# Altium schematic symbol library SYM-Passive.SchLib: 208 symbols (part 5 of 9)
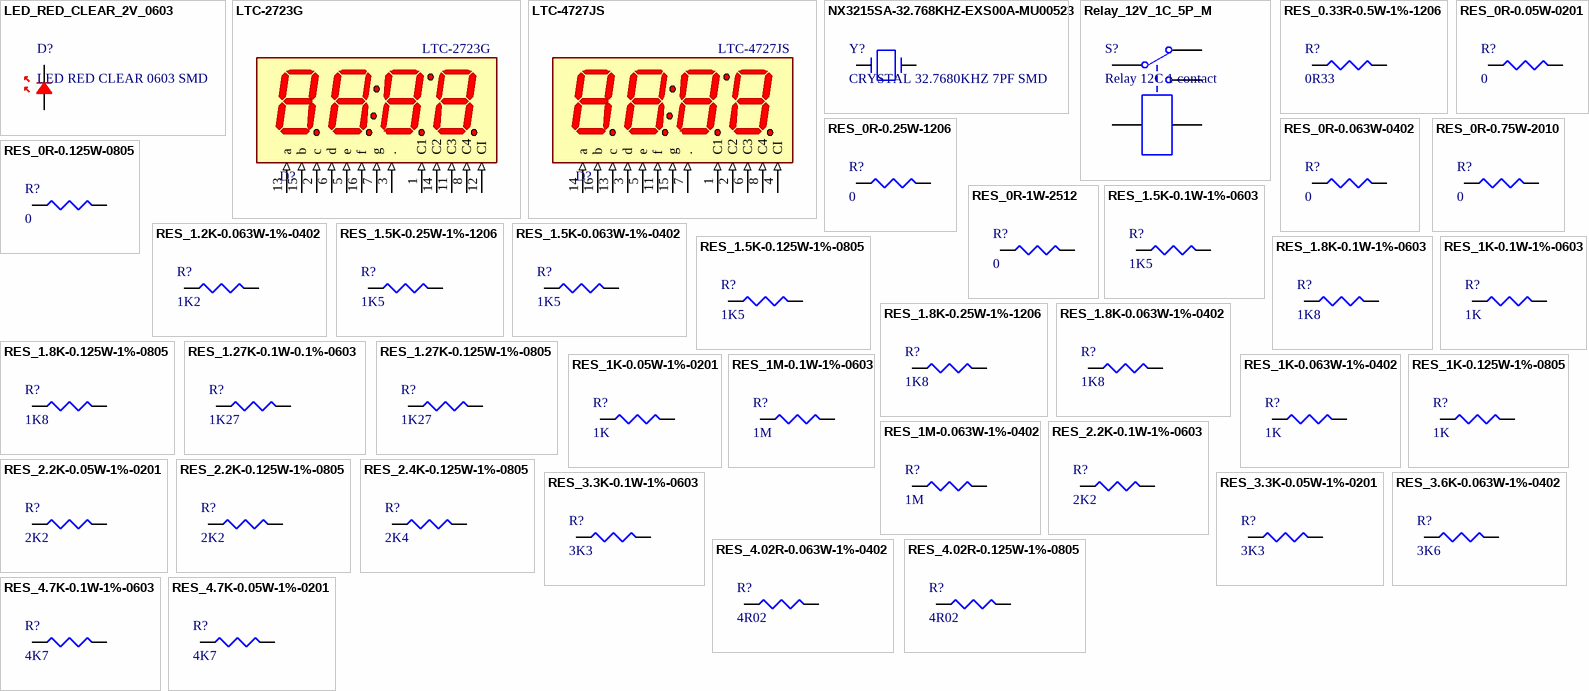
[diagram p9: symbols LED_RED_CLEAR_2V_0603 to RES_4.7K-0.05W-1%-0201]

## RES_2.2K-0.05W-1%-0201
designator R?, comment 2K2
Res Thick Film 0201 2.2K Ohm 1% 1/20W ±200ppm/°C Molded SMD Paper T/R; Manufacturer: Yageo; Manufacturer Part Number: RC0201FR-072K2L; Resistance: 2.2kR; Power Rating: 50mW; Voltage Rating: 25V; Supplier 1: Digi-Key; RoHS: Yes; Category: Chip SMD Resistors; Stock 1: 753875; Pricing 1: 1=0/10000, 10=0/04200, 100=0/01700, 1000=0/00765, 2500=0/00664, 5000=0/00548 (USD); Case/Package: 0201; Case Code (Imperial): 0201; Case Code (Metric): 0603; Size Code: 0201; Min Operating Temperature: -55°C; Max Operating Temperature: 125°C; Tolerance: 1%; Packaging: Tape and Reel; Resistor Type: Thick Film; Number of Terminations: 2; Termination: SMD/SMT; Temperature Coefficient: 200ppm/°C; Max Power Dissipation: 50mW; Features: Moisture Resistant; Series: RC; Resistance Tolerance: 1%; Construction: Rectangular; Length: 0.6mm; Width: 0.012inch; Height: 0.01inch; Depth: 0.3mm; REACH SVHC: Unknown; Military Standard: Not; Lead Free: Lead Free; RoHS Compliant: Yes; ComponentLink1URL: https://datasheet.ciiva.com/7672/1563626-7672218.pdf?src-supplier=Element14; ComponentLink1Description: https://datasheet.ciiva.com/7672/1563626-7672218.pdf?src-supplier=Element14; Supplier Part Number 1: YAG2572CT-ND
footprint RESC0603X03N - 0201 (Chip Resistor, 2-Leads, Body 0/60x0/30mm, IPC Medium Density)
footprint RESC0603X03M - 0201 (Chip Resistor, 2-Leads, Body 0/60x0/30mm, IPC Low Density)
footprint RESC0603X03L - 0201 (Chip Resistor, 2-Leads, Body 0/60x0/30mm, IPC High Density)
pins: 1, 2

## RES_2.2K-0.125W-1%-0805
designator R?, comment 2K2
Res SMD 0805 2K2 1% 0.125W T.C.100PPM; Manufacturer: Yageo; Manufacturer Part Number: RC0805FR-072K2L; Power Rating: 125mW; Resistance: 2.2kR; Temperature Coefficient: 100ppm/°C; Voltage Rating: 150V; Supplier 1: Digi-Key; RoHS: Yes; Category: Chip SMD Resistors; Stock 1: 1244; Pricing 1: 1=0/10000, 10=0/04200, 100=0/01690, 1000=0/00759, 2500=0/00659 (USD); Case/Package: 0805; Number of Pins: 2; Case Code (Imperial): 0805; Case Code (Metric): 2012; Size Code: 0805; Min Operating Temperature: -55°C; Max Operating Temperature: 155°C; Tolerance: 1%; Packaging: Tape and Reel; Voltage Rating (DC): 150V; Package Quantity: 1; Termination: SMD/SMT; Resistor Type: Thick Film; Number of Terminations: 2; Max Power Dissipation: 125mW; Features: Moisture Resistant; Series: RC; Resistance Tolerance: 1%; Construction: Rectangular; Technology: THICK FILM; Length: 2mm; Width: 1.25mm; Height: 0.5mm; Depth: 1.25mm; Lead Pitch: 0.4mm; REACH SVHC: No SVHC; Lead Free: Lead Free; RoHS Compliant: Yes; Military Standard: Not; Supplier Part Number 1: 311-2.20KCRCT-ND
footprint RESC2012X05N - 0805 (Chip Resistor, 2-Leads, Body 2/00x1/25mm, IPC Medium Density)
footprint RESC2012X05M - 0805 (Chip Resistor, 2-Leads, Body 2/00x1/25mm, IPC Low Density)
footprint RESC2012X05L - 0805 (Chip Resistor, 2-Leads, Body 2/00x1/25mm, IPC High Density)
pins: 1, 2

## RES_2.4K-0.125W-1%-0805
designator R?, comment 2K4
Res Thick Film 0805 240K Ohm 1% 0.125W(1/8W) ±100ppm/C Pad SMD T/R; Manufacturer: Yageo; Manufacturer Part Number: RC0805FR-07240KL; Resistance: 240kR; Power Rating: 125mW; Voltage Rating: 150V; Temperature Coefficient: 100ppm/°C; Supplier 1: Digi-Key; RoHS: Yes; Category: Chip SMD Resistors; Stock 1: 112631; Pricing 1: 1=0/10000, 10=0/04200, 100=0/01690, 1000=0/00759, 2500=0/00659 (USD); Mount: Surface Mount; Case/Package: 0805; Case Code (Metric): 2012; Case Code (Imperial): 0805; Size Code: 0805; Min Operating Temperature: -55°C; Max Operating Temperature: 155°C; Tolerance: 1%; Packaging: Tape and Reel; Resistor Type: Thick Film; Number of Terminations: 2; Termination: SMD/SMT; Max Power Dissipation: 125mW; Voltage Rating (DC): 150V; Features: Moisture Resistant; Series: RC; Technology: THICK FILM; Construction: Rectangular; Package Quantity: 1; Length: 0.079inch; Width: 0.049inch; Height: 0.024inch; Depth: 1.25mm; Military Standard: Not; Lead Free: Lead Free; RoHS Compliant: Yes; ComponentLink1URL: https://datasheet.ciiva.com/11809/0900766b8106beab-11809386.pdf?src-supplier=RSComponents; ComponentLink1Description: https://datasheet.ciiva.com/11809/0900766b8106beab-11809386.pdf?src-supplier=RSComponents; ComponentLink2URL: https://datasheet.ciiva.com/2519/pyu-r-int-thick-7-2519906.pdf?src-supplier=Digi-Key; ComponentLink2Description: https://datasheet.ciiva.com/2519/pyu-r-int-thick-7-2519906.pdf?src-supplier=Digi-Key; ComponentLink3URL: https://datasheet.ciiva.com/2519/pyu-r-int-thick-7-2519907.pdf?src-supplier=Digi-Key; ComponentLink3Description: https://datasheet.ciiva.com/2519/pyu-r-int-thick-7-2519907.pdf?src-supplier=Digi-Key; ComponentLink4URL: https://datasheet.ciiva.com/2519/pyu-r-int-thick-7-2519908.pdf?src-supplier=Digi-Key; ComponentLink4Description: https://datasheet.ciiva.com/2519/pyu-r-int-thick-7-2519908.pdf?src-supplier=Digi-Key; ComponentLink5URL: https://datasheet.ciiva.com/12667/rc0805-12667389.pdf?src-supplier=Mouser; ComponentLink5Description: https://datasheet.ciiva.com/12667/rc0805-12667389.pdf?src-supplier=Mouser; ComponentLink6URL: https://datasheet.ciiva.com/15189/getdatasheetpartid-329211-15189933.pdf?src-supplier=Verical; ComponentLink6Description: https://datasheet.ciiva.com/15189/getdatasheetpartid-329211-15189933.pdf?src-supplier=Verical; Supplier Part Number 1: 311-240KCRCT-ND
footprint RESC2012X05N - 0805 (Chip Resistor, 2-Leads, Body 2/00x1/25mm, IPC Medium Density)
footprint RESC2012X05M - 0805 (Chip Resistor, 2-Leads, Body 2/00x1/25mm, IPC Low Density)
footprint RESC2012X05L - 0805 (Chip Resistor, 2-Leads, Body 2/00x1/25mm, IPC High Density)
pins: 1, 2

## RES_3.3K-0.1W-1%-0603
designator R?, comment 3K3
Res General Purpose Thick Film 0603 3.3K Ohm 1% 1/10W ±100ppm/°C Molded SMD Paper T/R; Manufacturer: Yageo; Manufacturer Part Number: RC0603FR-073K3L; Resistance: 3.3kR; Power Rating: 100mW; Voltage Rating (DC): 50V; Supplier 1: Digi-Key; RoHS: Yes; Category: Chip SMD Resistors; Stock 1: 2880512; Pricing 1: 1=0/10000, 10=0/02300, 100=0/00930, 1000=0/00417, 2500=0/00362 (USD); Case/Package: 0603; Number of Pins: 2; Case Code (Imperial): 0603; Case Code (Metric): 1608; Size Code: 0603; Min Operating Temperature: -55°C; Max Operating Temperature: 155°C; Tolerance: 1%; Packaging: Tape and Reel; Temperature Coefficient: 100ppm/°C; Number of Terminations: 2; Voltage Rating: 50V; Package Quantity: 1; Termination: SMD/SMT; Resistor Type: Thick Film; Max Power Dissipation: 100mW; Features: Moisture Resistant; Series: RC; Resistance Tolerance: 1%; Construction: Rectangular; Length: 1.6mm; Width: 0.8mm; Height: 0.022inch; Depth: 0.8mm; REACH SVHC: No SVHC; Lead Free: Lead Free; Military Standard: Not; RoHS Compliant: Yes; ComponentLink1URL: https://datasheet.ciiva.com/7746/1686128-7746345.pdf?src-supplier=Element14; ComponentLink1Description: https://datasheet.ciiva.com/7746/1686128-7746345.pdf?src-supplier=Element14; ComponentLink2URL: https://datasheet.ciiva.com/46440/1868787-46440905.pdf?src-supplier=Element14; ComponentLink2Description: https://datasheet.ciiva.com/46440/1868787-46440905.pdf?src-supplier=Element14; ComponentLink3URL: https://datasheet.ciiva.com/2453/pyu-r-int-thick-7-2453926.pdf?src-supplier=Digi-Key; ComponentLink3Description: https://datasheet.ciiva.com/2453/pyu-r-int-thick-7-2453926.pdf?src-supplier=Digi-Key; ComponentLink4URL: https://datasheet.ciiva.com/2453/pyu-r-int-thick-7-2453927.pdf?src-supplier=Digi-Key; ComponentLink4Description: https://datasheet.ciiva.com/2453/pyu-r-int-thick-7-2453927.pdf?src-supplier=Digi-Key; Supplier Part Number 1: 311-3.30KHRCT-ND
footprint RESC1608X04N - 0603 (Chip Resistor, 2-Leads, Body 1/60x0/80mm, IPC Medium Density)
footprint RESC1608X04M - 0603 (Chip Resistor, 2-Leads, Body 1/60x0/80mm, IPC Low Density)
footprint RESC1608X04L - 0603 (Chip Resistor, 2-Leads, Body 1/60x0/80mm, IPC High Density)
pins: 1, 2

## RES_3.3K-0.05W-1%-0201
designator R?, comment 3K3
Thick Film Resistors - SMD 3.3K OHM 1%; Manufacturer: Yageo; Manufacturer Part Number: RC0201FR-073K3L; Resistance: 3.3kR; Power Rating: 50mW; Voltage Rating: 25V; Temperature Coefficient: 200ppm/°C; Supplier 1: Digi-Key; RoHS: Yes; Category: Chip SMD Resistors; Stock 1: 1365; Pricing 1: 1=0/10000, 10=0/04200, 100=0/01700, 1000=0/00765, 2500=0/00664, 5000=0/00548 (USD); Case/Package: 0201; Case Code (Metric): 0603; Case Code (Imperial): 0201; Min Operating Temperature: -55°C; Max Operating Temperature: 125°C; Tolerance: 1%; Packaging: Tape and Reel; Package Quantity: 10000; Resistor Type: Thick Film; Number of Terminations: 2; Termination: SMD/SMT; Max Power Dissipation: 50mW; Features: Moisture Resistant; Series: RC; Construction: Rectangular; Resistance Tolerance: 1%; Length: 0.6mm; Width: 0.012inch; Height: 0.01inch; Depth: 0.3mm; REACH SVHC: Unknown; Military Standard: Not; RoHS Compliant: Yes; ComponentLink1URL: https://datasheet.ciiva.com/14985/pyu-r-int-thick-7-14985418.pdf?src-supplier=Digi-Key; ComponentLink1Description: https://datasheet.ciiva.com/14985/pyu-r-int-thick-7-14985418.pdf?src-supplier=Digi-Key; ComponentLink2URL: https://datasheet.ciiva.com/22698/1563626-22698524.pdf?src-supplier=Element14; ComponentLink2Description: https://datasheet.ciiva.com/22698/1563626-22698524.pdf?src-supplier=Element14; Supplier Part Number 1: YAG2285CT-ND
footprint RESC0603X03N - 0201 (Chip Resistor, 2-Leads, Body 0/60x0/30mm, IPC Medium Density)
footprint RESC0603X03M - 0201 (Chip Resistor, 2-Leads, Body 0/60x0/30mm, IPC Low Density)
footprint RESC0603X03L - 0201 (Chip Resistor, 2-Leads, Body 0/60x0/30mm, IPC High Density)
pins: 1, 2

## RES_3.6K-0.063W-1%-0402
designator R?, comment 3K6
Res Thick Film 0402 3.6K Ohm 1% 0.063W(1/16W) ±100ppm/°C Molded SMD Paper T/R; Manufacturer: Yageo; Manufacturer Part Number: RC0402FR-073K6L; Resistance: 3.6kR; Power Rating: 62.5mW; Voltage Rating: 50V; Max Power Dissipation: 63mW; Supplier 1: Digi-Key; RoHS: Yes; Category: Chip SMD Resistors; Stock 1: 1067086; Pricing 1: 1=0/10000, 10=0/01400, 100=0/00580, 1000=0/00262, 2500=0/00228, 5000=0/00188 (USD); Case/Package: 0402; Number of Pins: 2; Case Code (Imperial): 0402; Case Code (Metric): 1005; Weight: 2.3E-05oz; Size Code: 0402; Min Operating Temperature: -55°C; Max Operating Temperature: 155°C; Package Quantity: 1; Tolerance: 1%; Packaging: Tape and Reel; Resistor Type: Thick Film; Termination: SMD/SMT; Number of Terminations: 2; Temperature Coefficient: 100ppm/°C; Voltage Rating (DC): 50V; Features: Moisture Resistant; Series: RC; Construction: Rectangular; Resistance Tolerance: 1%; Length: 1mm; Width: 0.5mm; Height: 0.016inch; Depth: 0.5mm; Reach SVHC Compliant: Yes; Military Standard: Not; Lead Free: Lead Free; RoHS Compliant: Yes; ComponentLink1URL: https://datasheet.ciiva.com/2553/pyu-r-int-thick-7-2553270.pdf?src-supplier=Digi-Key; ComponentLink1Description: https://datasheet.ciiva.com/2553/pyu-r-int-thick-7-2553270.pdf?src-supplier=Digi-Key; ComponentLink2URL: https://datasheet.ciiva.com/2553/pyu-r-int-thick-7-2553271.pdf?src-supplier=Digi-Key; ComponentLink2Description: https://datasheet.ciiva.com/2553/pyu-r-int-thick-7-2553271.pdf?src-supplier=Digi-Key; ComponentLink3URL: https://datasheet.ciiva.com/2553/pyu-r-int-thick-7-2553269.pdf?src-supplier=Digi-Key; ComponentLink3Description: https://datasheet.ciiva.com/2553/pyu-r-int-thick-7-2553269.pdf?src-supplier=Digi-Key; ComponentLink4URL: https://datasheet.ciiva.com/15189/getdatasheetpartid-326454-15189451.pdf?src-supplier=Verical; ComponentLink4Description: https://datasheet.ciiva.com/15189/getdatasheetpartid-326454-15189451.pdf?src-supplier=Verical; Supplier Part Number 1: 311-3.6KLRCT-ND
footprint RESC1005X04N - 0402 (Chip Resistor, 2-Leads, Body 1/00x0/50mm, IPC Medium Density)
footprint RESC1005X04M - 0402 (Chip Resistor, 2-Leads, Body 1/00x0/50mm, IPC Low Density)
footprint RESC1005X04L - 0402 (Chip Resistor, 2-Leads, Body 1/00x0/50mm, IPC High Density)
pins: 1, 2

## RES_4.02R-0.063W-1%-0402
designator R?, comment 4R02
Res Thick Film 0402 4.02 Ohm 1% 1/16W ±200ppm/°C Molded SMD Paper T/R; Manufacturer: Yageo; Manufacturer Part Number: RC0402FR-074R02L; Power Rating: 62.5mW; Resistance: 4.02R; Voltage Rating: 50V; Max Power Dissipation: 63mW; Supplier 1: Digi-Key; RoHS: Yes; Category: Chip SMD Resistors; Stock 1: 2146; Pricing 1: 1=0/10000, 10=0/02500, 100=0/01000, 1000=0/00451, 2500=0/00392, 5000=0/00323 (USD); Case/Package: 0402; Case Code (Imperial): 0402; Case Code (Metric): 1005; Contact Plating: Tin,Matte; Size Code: 0402; Min Operating Temperature: -55°C; Max Operating Temperature: 155°C; Packaging: Tape and Reel; Tolerance: 1%; Resistor Type: Thick Film; Termination: SMD/SMT; Number of Terminations: 2; Temperature Coefficient: 200ppm/°C; Features: Moisture Resistant; Series: RC; Length: 0.039inch; Width: 0.5mm; Height: 0.016inch; Lead Free: Lead Free; RoHS Compliant: Yes; ComponentLink1URL: https://datasheet.ciiva.com/28411/pyu-rc0402-51-rohs-l-6-28411002.pdf?src-supplier=Avnet+Europe; ComponentLink1Description: https://datasheet.ciiva.com/28411/pyu-rc0402-51-rohs-l-6-28411002.pdf?src-supplier=Avnet+Europe; ComponentLink2URL: https://datasheet.ciiva.com/8893/pyu-rc0402-51-rohs-l-6-8893247.pdf?src-supplier=Avnet; ComponentLink2Description: https://datasheet.ciiva.com/8893/pyu-rc0402-51-rohs-l-6-8893247.pdf?src-supplier=Avnet; Supplier Part Number 1: 13-RC0402FR-074R02LCT-ND
footprint RESC1005X04N - 0402 (Chip Resistor, 2-Leads, Body 1/00x0/50mm, IPC Medium Density)
footprint RESC1005X04M - 0402 (Chip Resistor, 2-Leads, Body 1/00x0/50mm, IPC Low Density)
footprint RESC1005X04L - 0402 (Chip Resistor, 2-Leads, Body 1/00x0/50mm, IPC High Density)
pins: 1, 2

## RES_4.02R-0.125W-1%-0805
designator R?, comment 4R02
RES SMD 4.02 OHM 1% 1/8W 0805; Manufacturer: Yageo; Manufacturer Part Number: RC0805FR-074R02L; Resistance: 4.02R; Power Rating: 125mW; Temperature Coefficient: 200ppm/°C; Voltage Rating (DC): 150V; Supplier 1: Digi-Key; RoHS: Yes; Category: Chip SMD Resistors; Stock 1: 65425; Pricing 1: 1=0/10000, 10=0/08300, 100=0/03390, 1000=0/01521, 2500=0/01320 (USD); Case/Package: 0805; Case Code (Metric): 2012; Case Code (Imperial): 0805; Contact Plating: Tin,Lead,Matte; Size Code: 0805; Min Operating Temperature: -55°C; Max Operating Temperature: 155°C; Package Quantity: 1; Tolerance: 1%; Packaging: Tape and Reel; Resistor Type: Thick Film; Number of Terminations: 2; Max Power Dissipation: 125mW; Features: Moisture Resistant; Series: RC; Construction: Rectangular; Length: 0.079inch; Width: 0.049inch; Height: 0.024inch; Depth: 1.25mm; Radiation Hardening: No; Military Standard: Not; Lead Free: Lead Free; RoHS Compliant: Yes; ComponentLink1URL: https://datasheet.ciiva.com/2459/pyu-r-int-thick-7-2459742.pdf?src-supplier=Digi-Key; ComponentLink1Description: https://datasheet.ciiva.com/2459/pyu-r-int-thick-7-2459742.pdf?src-supplier=Digi-Key; ComponentLink2URL: https://datasheet.ciiva.com/2459/pyu-r-int-thick-7-2459743.pdf?src-supplier=Digi-Key; ComponentLink2Description: https://datasheet.ciiva.com/2459/pyu-r-int-thick-7-2459743.pdf?src-supplier=Digi-Key; ComponentLink3URL: https://datasheet.ciiva.com/2459/pyu-r-int-thick-7-2459744.pdf?src-supplier=Digi-Key; ComponentLink3Description: https://datasheet.ciiva.com/2459/pyu-r-int-thick-7-2459744.pdf?src-supplier=Digi-Key; Supplier Part Number 1: 311-4.02CRCT-ND
footprint RESC2012X05N - 0805 (Chip Resistor, 2-Leads, Body 2/00x1/25mm, IPC Medium Density)
footprint RESC2012X05M - 0805 (Chip Resistor, 2-Leads, Body 2/00x1/25mm, IPC Low Density)
footprint RESC2012X05L - 0805 (Chip Resistor, 2-Leads, Body 2/00x1/25mm, IPC High Density)
pins: 1, 2

## RES_4.7K-0.1W-1%-0603
designator R?, comment 4K7
Res Thick Film 0603 4.7K Ohm 1% 1/10W ±100ppm/°C Molded SMD Paper T/R; Manufacturer: Yageo; Manufacturer Part Number: RC0603FR-074K7L; Resistance: 4.7kR; Voltage Rating (DC): 50V; Power Rating: 100mW; Supplier 1: Digi-Key; RoHS: Yes; Category: Chip SMD Resistors; Stock 1: 17391336; Pricing 1: 1=0/10000, 10=0/02300, 100=0/00930, 1000=0/00417, 2500=0/00362 (USD); Case/Package: 0603; Number of Pins: 2; Case Code (Imperial): 0603; Case Code (Metric): 1608; Size Code: 0603; Min Operating Temperature: -55°C; Max Operating Temperature: 155°C; Packaging: Tape and Reel; Tolerance: 1%; Temperature Coefficient: 100ppm/°C; Resistor Type: Thick Film; Voltage Rating: 50V; Termination: SMD/SMT; Features: Moisture Resistant; Series: RC; Max Power Dissipation: 100mW; Number of Terminations: 2; Construction: Rectangular; Resistance Tolerance: 1%; Length: 1.6mm; Width: 0.8mm; Height: 0.45mm; Depth: 0.8mm; Lead Pitch: 0.3mm; REACH SVHC: No SVHC; Lead Free: Lead Free; Military Standard: Not; RoHS Compliant: Yes; ComponentLink1URL: https://datasheet.ciiva.com/15189/getdatasheetpartid-422754-15189760.pdf?src-supplier=Verical; ComponentLink1Description: https://datasheet.ciiva.com/15189/getdatasheetpartid-422754-15189760.pdf?src-supplier=Verical; ComponentLink2URL: https://datasheet.ciiva.com/7660/38590-7660794.pdf?src-supplier=Element14; ComponentLink2Description: https://datasheet.ciiva.com/7660/38590-7660794.pdf?src-supplier=Element14; ComponentLink3URL: https://datasheet.ciiva.com/22747/443971-22747528.pdf?src-supplier=Element14; ComponentLink3Description: https://datasheet.ciiva.com/22747/443971-22747528.pdf?src-supplier=Element14; ComponentLink4URL: https://datasheet.ciiva.com/46440/1868787-46440909.pdf?src-supplier=Element14; ComponentLink4Description: https://datasheet.ciiva.com/46440/1868787-46440909.pdf?src-supplier=Element14; ComponentLink5URL: https://datasheet.ciiva.com/7746/1868787-7746365.pdf?src-supplier=Element14; ComponentLink5Description: https://datasheet.ciiva.com/7746/1868787-7746365.pdf?src-supplier=Element14; ComponentLink6URL: https://datasheet.ciiva.com/7746/1738695-7746366.pdf?src-supplier=Element14; ComponentLink6Description: https://datasheet.ciiva.com/7746/1738695-7746366.pdf?src-supplier=Element14; Supplier Part Number 1: 311-4.70KHRCT-ND
footprint RESC1608X04N - 0603 (Chip Resistor, 2-Leads, Body 1/60x0/80mm, IPC Medium Density)
footprint RESC1608X04M - 0603 (Chip Resistor, 2-Leads, Body 1/60x0/80mm, IPC Low Density)
footprint RESC1608X04L - 0603 (Chip Resistor, 2-Leads, Body 1/60x0/80mm, IPC High Density)
pins: 1, 2

## RES_4.7K-0.05W-1%-0201
designator R?, comment 4K7
Res Thick Film 0201 4.7K Ohm 1% 1/20W ±200ppm/°C Molded SMD SMD Paper T/R; Manufacturer: Yageo; Manufacturer Part Number: RC0201FR-074K7L; Resistance: 4.7kR; Power Rating: 50mW; Voltage Rating: 25V; Supplier 1: Digi-Key; RoHS: Yes; Category: Chip SMD Resistors; Stock 1: 1843697; Pricing 1: 1=0/10000, 10=0/04200, 100=0/01700, 1000=0/00765, 2500=0/00664, 5000=0/00548 (USD); Case/Package: 0201; Case Code (Metric): 0603; Case Code (Imperial): 0201; Weight: 6E-06oz; Contact Plating: Tin,Matte; Size Code: 0201; Min Operating Temperature: -55°C; Max Operating Temperature: 125°C; Tolerance: 1%; Packaging: Tape and Reel; Package Quantity: 1; Resistor Type: Thick Film; Number of Terminations: 2; Termination: SMD/SMT; Temperature Coefficient: 200ppm/°C; Max Power Dissipation: 50mW; Features: Moisture Resistant; Series: RC; Resistance Tolerance: 1%; Construction: Rectangular; Length: 0.6mm; Width: 0.012inch; Height: 0.01inch; Depth: 0.3mm; Radiation Hardening: No; REACH SVHC: Unknown; Military Standard: Not; Lead Free: Lead Free; RoHS Compliant: Yes; ComponentLink1URL: https://datasheet.ciiva.com/8892/pyu-rc0201-51-rohs-l-8-8892942.pdf?src-supplier=Avnet; ComponentLink1Description: https://datasheet.ciiva.com/8892/pyu-rc0201-51-rohs-l-8-8892942.pdf?src-supplier=Avnet; ComponentLink2URL: https://datasheet.ciiva.com/2493/pyu-r-int-thick-7-2493811.pdf?src-supplier=Digi-Key; ComponentLink2Description: https://datasheet.ciiva.com/2493/pyu-r-int-thick-7-2493811.pdf?src-supplier=Digi-Key; ComponentLink3URL: https://datasheet.ciiva.com/2493/pyu-r-int-thick-7-2493812.pdf?src-supplier=Digi-Key; ComponentLink3Description: https://datasheet.ciiva.com/2493/pyu-r-int-thick-7-2493812.pdf?src-supplier=Digi-Key; ComponentLink4URL: https://datasheet.ciiva.com/2493/pyu-r-int-thick-7-2493813.pdf?src-supplier=Digi-Key; ComponentLink4Description: https://datasheet.ciiva.com/2493/pyu-r-int-thick-7-2493813.pdf?src-supplier=Digi-Key; ComponentLink5URL: https://datasheet.ciiva.com/28410/pyu-rc0201-51-rohs-l-8-28410061.pdf?src-supplier=Avnet+Europe; ComponentLink5Description: https://datasheet.ciiva.com/28410/pyu-rc0201-51-rohs-l-8-28410061.pdf?src-supplier=Avnet+Europe; ComponentLink6URL: https://datasheet.ciiva.com/7672/1563626-7672233.pdf?src-supplier=Element14; ComponentLink6Description: https://datasheet.ciiva.com/7672/1563626-7672233.pdf?src-supplier=Element14; Supplier Part Number 1: 311-4.70KMCT-ND
footprint RESC0603X03N - 0201 (Chip Resistor, 2-Leads, Body 0/60x0/30mm, IPC Medium Density)
footprint RESC0603X03M - 0201 (Chip Resistor, 2-Leads, Body 0/60x0/30mm, IPC Low Density)
footprint RESC0603X03L - 0201 (Chip Resistor, 2-Leads, Body 0/60x0/30mm, IPC High Density)
pins: 1, 2

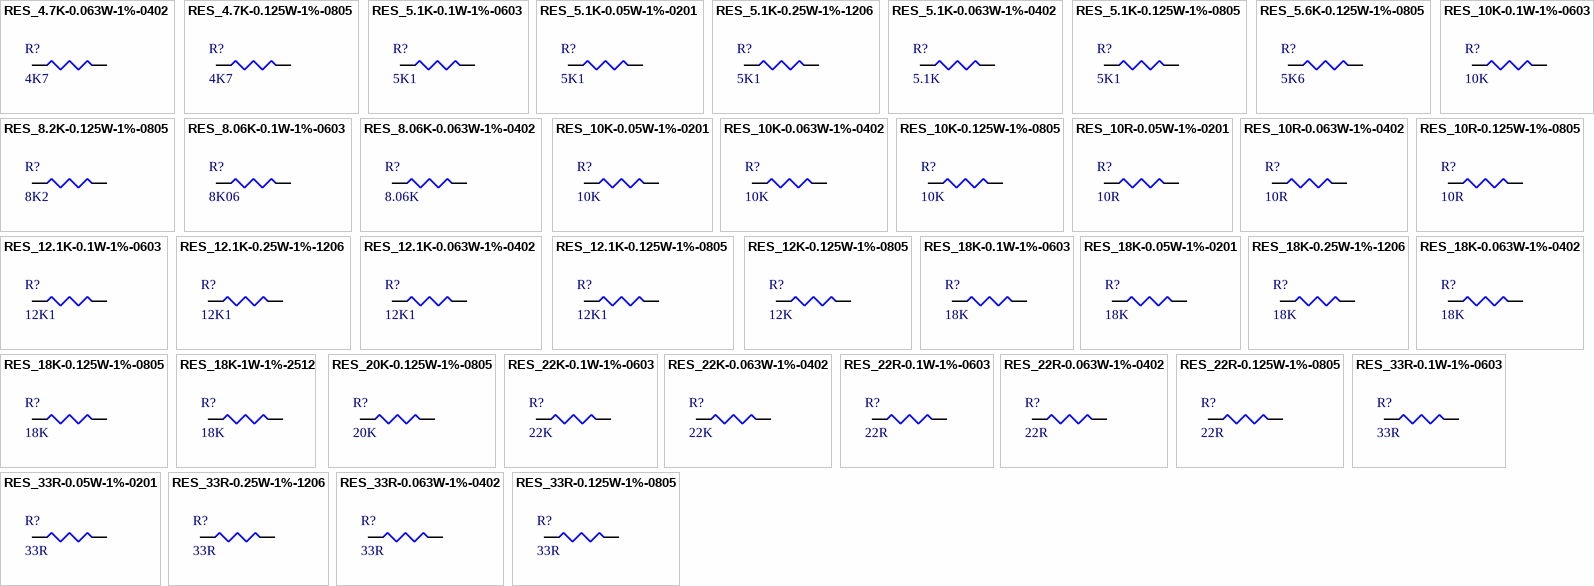
[diagram p3: symbols RES_4.7K-0.063W-1%-0402 to RES_33R-0.125W-1%-0805]

## RES_4.7K-0.063W-1%-0402
designator R?, comment 4K7
Res General Purpose Thick Film 0402 4.7K Ohm 1% 1/16W ±100ppm/°C Molded SMD Paper T/R; Manufacturer: Yageo; Manufacturer Part Number: RC0402FR-074K7L; Voltage Rating (DC): 50V; Power Rating: 62.5mW; Resistance: 4.7kR; Max Power Dissipation: 63mW; Supplier 1: Digi-Key; RoHS: Yes; Category: Chip SMD Resistors; Stock 1: 2007937; Pricing 1: 1=0/10000, 10=0/01600, 100=0/00660, 1000=0/00299, 2500=0/00259, 5000=0/00214 (USD); Case/Package: 0402; Number of Pins: 2; Case Code (Imperial): 0402; Case Code (Metric): 1005; Size Code: 0402; Min Operating Temperature: -55°C; Max Operating Temperature: 155°C; Tolerance: 1%; Voltage Rating: 50V; Packaging: Tape and Reel; Resistor Type: Thick Film; Termination: SMD/SMT; Temperature Coefficient: 100ppm/°C; Features: Moisture Resistant; Series: RC; Number of Terminations: 2; Resistance Tolerance: 1%; Construction: Rectangular; Length: 0.039inch; Width: 0.02inch; Height: 0.32mm; Depth: 0.5mm; Height - Seated (Max): 0.016inch; REACH SVHC: No SVHC; Military Standard: Not; Lead Free: Lead Free; RoHS Compliant: Yes; ComponentLink1URL: https://datasheet.ciiva.com/7850/1018594-7850022.pdf?src-supplier=Element14; ComponentLink1Description: https://datasheet.ciiva.com/7850/1018594-7850022.pdf?src-supplier=Element14; ComponentLink2URL: https://datasheet.ciiva.com/7850/1018594-7850023.pdf?src-supplier=Element14; ComponentLink2Description: https://datasheet.ciiva.com/7850/1018594-7850023.pdf?src-supplier=Element14; ComponentLink3URL: https://datasheet.ciiva.com/15215/getdatasheetpartid-328119-15215035.pdf?src-supplier=Verical; ComponentLink3Description: https://datasheet.ciiva.com/15215/getdatasheetpartid-328119-15215035.pdf?src-supplier=Verical; ComponentLink4URL: https://datasheet.ciiva.com/22661/1686128-22661342.pdf?src-supplier=Element14; ComponentLink4Description: https://datasheet.ciiva.com/22661/1686128-22661342.pdf?src-supplier=Element14; Supplier Part Number 1: 311-4.7KLRCT-ND
footprint RESC1005X04N - 0402 (Chip Resistor, 2-Leads, Body 1/00x0/50mm, IPC Medium Density)
footprint RESC1005X04M - 0402 (Chip Resistor, 2-Leads, Body 1/00x0/50mm, IPC Low Density)
footprint RESC1005X04L - 0402 (Chip Resistor, 2-Leads, Body 1/00x0/50mm, IPC High Density)
pins: 1, 2

## RES_4.7K-0.125W-1%-0805
designator R?, comment 4K7
General Purpose Chip Resistor Thick Film 0805 4.7kOhm 1% Paper T/R; Manufacturer: Yageo; Manufacturer Part Number: RC0805FR-074K7L; Resistance: 4.7kR; Temperature Coefficient: 100ppm/°C; Power Rating: 125mW; Voltage Rating (DC): 150V; Supplier 1: Digi-Key; RoHS: Yes; Category: Chip SMD Resistors; Stock 1: 2323324; Pricing 1: 1=0/10000, 10=0/04200, 100=0/01690, 1000=0/00759, 2500=0/00659 (USD); Case/Package: 0805; Number of Pins: 2; Case Code (Metric): 2012; Case Code (Imperial): 0805; Size Code: 0805; Min Operating Temperature: -55°C; Max Operating Temperature: 155°C; Packaging: Tape and Reel; Tolerance: 1%; Resistor Type: Thick Film; Number of Terminations: 2; Voltage Rating: 150V; Termination: SMD/SMT; Max Power Dissipation: 125mW; Features: Moisture Resistant; Series: RC; Resistance Tolerance: 1%; Construction: Rectangular; Package Quantity: 5000; Technology: THICK FILM; Length: 0.079inch; Width: 0.049inch; Height: 0.024inch; Depth: 1.25mm; REACH SVHC: No SVHC; Lead Free: Lead Free; RoHS Compliant: Yes; Military Standard: Not; Supplier Part Number 1: 311-4.70KCRCT-ND
footprint RESC2012X05N - 0805 (Chip Resistor, 2-Leads, Body 2/00x1/25mm, IPC Medium Density)
footprint RESC2012X05M - 0805 (Chip Resistor, 2-Leads, Body 2/00x1/25mm, IPC Low Density)
footprint RESC2012X05L - 0805 (Chip Resistor, 2-Leads, Body 2/00x1/25mm, IPC High Density)
pins: 1, 2

## RES_5.1K-0.1W-1%-0603
designator R?, comment 5K1
Res Thick Film 0603 5.1K Ohm 1% 0.1W(1/10W) ±100ppm/°C Pad SMD T/R; Manufacturer: Yageo; Manufacturer Part Number: RC0603FR-075K1L; Value: 5.1kR; Power Rating: 100mW; Voltage Rating: 50V; Supplier: Digi-Key; Supplier Part Number: 311-5.10KHRCT-ND; RoHS: Yes; Category: Chip SMD Resistors; Stock: 3525764; Pricing: 1=0.10000, 10=0.01900, 100=0.00770, 1000=0.00345, 2500=0.00300 (USD); Case/Package: 0603; Pins: 2; Case Code (Imperial): 0603; Case Code (Metric): 1608; Min Operating Temperature: -55°C; Max Operating Temperature: 155°C; Tolerance: 1%; Packaging: Tape and Reel; Package Quantity: 1; Termination: SMD/SMT; Resistor Type: Thick Film; Number of Terminations: 2; Temperature Coefficient: 100ppm/°C; Max Power Dissipation: 100mW; Voltage Rating (DC): 50V; Features: Moisture Resistant; Series: RC; Resistance Tolerance: 1%; Construction: Rectangular; Length: 0.063inch; Width: 0.031inch; Height: 0.022inch; Depth: 0.8mm; Lead Free: Lead Free; RoHS Compliant: Yes; Reach SVHC Compliant: Yes; Military Standard: Not; ComponentLink1URL: https://datasheet.ciiva.com/46395/443971-46395016.pdf?src-supplier=Element14; ComponentLink1Description: https://datasheet.ciiva.com/46395/443971-46395016.pdf?src-supplier=Element14; ComponentLink2URL: https://datasheet.ciiva.com/2454/pyu-r-int-thick-7-2454046.pdf?src-supplier=Digi-Key; ComponentLink2Description: https://datasheet.ciiva.com/2454/pyu-r-int-thick-7-2454046.pdf?src-supplier=Digi-Key; ComponentLink3URL: https://datasheet.ciiva.com/2454/pyu-r-int-thick-7-2454047.pdf?src-supplier=Digi-Key; ComponentLink3Description: https://datasheet.ciiva.com/2454/pyu-r-int-thick-7-2454047.pdf?src-supplier=Digi-Key; ComponentLink4URL: https://datasheet.ciiva.com/2454/pyu-r-int-thick-7-2454045.pdf?src-supplier=Digi-Key; ComponentLink4Description: https://datasheet.ciiva.com/2454/pyu-r-int-thick-7-2454045.pdf?src-supplier=Digi-Key; ComponentLink5URL: https://datasheet.ciiva.com/15189/getdatasheetpartid-326732-15189786.pdf?src-supplier=Verical; ComponentLink5Description: https://datasheet.ciiva.com/15189/getdatasheetpartid-326732-15189786.pdf?src-supplier=Verical
footprint RESC1608X04N - 0603 (Chip Resistor, 2-Leads, Body 1/60x0/80mm, IPC Medium Density)
footprint RESC1608X04M - 0603 (Chip Resistor, 2-Leads, Body 1/60x0/80mm, IPC Low Density)
footprint RESC1608X04L - 0603 (Chip Resistor, 2-Leads, Body 1/60x0/80mm, IPC High Density)
pins: 1, 2

## RES_5.1K-0.05W-1%-0201
designator R?, comment 5K1
Res Thick Film 0201 5.1K Ohm 1% 1/20W ±200ppm/°C Molded SMD Paper T/R; Manufacturer: Yageo; Manufacturer Part Number: RC0201FR-075K1L; Power Rating: 50mW; Value: 5.1kR; Voltage Rating: 25V; Supplier: Digi-Key; Supplier Part Number: YAG2741CT-ND; RoHS: Yes; Category: Chip SMD Resistors; Stock: 588249; Pricing: 1=0.10000, 10=0.03700, 100=0.01500, 1000=0.00672, 2500=0.00583, 5000=0.00482 (USD); Case/Package: 0201; Case Code (Imperial): 0201; Case Code (Metric): 0603; Min Operating Temperature: -55°C; Max Operating Temperature: 125°C; Packaging: Tape and Reel; Tolerance: 1%; Resistor Type: Thick Film; Termination: SMD/SMT; Number of Terminations: 2; Temperature Coefficient: 200ppm/°C; Max Power Dissipation: 50mW; Features: Moisture Resistant; Series: RC; Construction: Rectangular; Length: 0.6mm; Width: 0.3mm; Height: 0.01inch; Depth: 0.3mm; Military Standard: Not; Lead Free: Lead Free; RoHS Compliant: Yes; ComponentLink1URL: http://www.mouser.com/ds/2/447/RC0201-559633.pdf?src-supplier=Mouser; ComponentLink1Description: http://www.mouser.com/ds/2/447/RC0201-559633.pdf?src-supplier=Mouser; ComponentLink2URL: http://www.yageo.com/documents/recent/PYu-RC_Group_51_RoHS_L_10.pdf?src-supplier=Digi-Key; ComponentLink2Description: http://www.yageo.com/documents/recent/PYu-RC_Group_51_RoHS_L_10.pdf?src-supplier=Digi-Key
footprint RESC0603X03N - 0201 (Chip Resistor, 2-Leads, Body 0/60x0/30mm, IPC Medium Density)
footprint RESC0603X03M - 0201 (Chip Resistor, 2-Leads, Body 0/60x0/30mm, IPC Low Density)
footprint RESC0603X03L - 0201 (Chip Resistor, 2-Leads, Body 0/60x0/30mm, IPC High Density)
pins: 1, 2

## RES_5.1K-0.25W-1%-1206
designator R?, comment 5K1
Res Thick Film 1206 51K Ohm 1% 0.25W(1/4W) ±100ppm/°C Pad SMD T/R; Manufacturer: Yageo; Manufacturer Part Number: RC1206FR-0751KL; Value: 51kR; Power Rating: 250mW; Voltage Rating: 200V; Supplier: Digi-Key; Supplier Part Number: 311-51.0KFRCT-ND; RoHS: Yes; Category: Chip SMD Resistors; Stock: 32157; Pricing: 1=0.10000, 10=0.05900, 100=0.02380, 1000=0.01071, 2500=0.00929 (USD); Case/Package: 1206; Case Code (Metric): 3216; Case Code (Imperial): 1206; Weight: 0.000571oz; Min Operating Temperature: -55°C; Max Operating Temperature: 155°C; Package Quantity: 1; Tolerance: 1%; Packaging: Tape and Reel; Resistor Type: Thick Film; Number of Terminations: 2; Termination: SMD/SMT; Max Power Dissipation: 250mW; Temperature Coefficient: 100ppm/°C; Voltage Rating (DC): 200V; Series: RC; Construction: Rectangular; Features: Moisture Resistant; Length: 0.122inch; Width: 0.063inch; Height: 0.026inch; Depth: 1.6mm; Military Standard: Not; Lead Free: Lead Free; RoHS Compliant: Yes; ComponentLink1URL: https://datasheet.ciiva.com/2491/pyu-rc1206-51-rohs-l-4-2491955.pdf?src-supplier=Digi-Key; ComponentLink1Description: https://datasheet.ciiva.com/2491/pyu-rc1206-51-rohs-l-4-2491955.pdf?src-supplier=Digi-Key; ComponentLink2URL: https://datasheet.ciiva.com/2491/pyu-rc1206-51-rohs-l-4-2491956.pdf?src-supplier=Digi-Key; ComponentLink2Description: https://datasheet.ciiva.com/2491/pyu-rc1206-51-rohs-l-4-2491956.pdf?src-supplier=Digi-Key; ComponentLink3URL: https://datasheet.ciiva.com/2491/pyu-rc1206-51-rohs-l-4-2491954.pdf?src-supplier=Digi-Key; ComponentLink3Description: https://datasheet.ciiva.com/2491/pyu-rc1206-51-rohs-l-4-2491954.pdf?src-supplier=Digi-Key; ComponentLink4URL: https://datasheet.ciiva.com/16992/pyu-rc1206-51-rohs-l-4-16992280.pdf?src-supplier=Future+Electronics; ComponentLink4Description: https://datasheet.ciiva.com/16992/pyu-rc1206-51-rohs-l-4-16992280.pdf?src-supplier=Future+Electronics
footprint RESC3116X06N - 1206 (Chip Resistor, 2-Leads, Body 3/10x1/60mm, IPC Medium Density)
footprint RESC3116X06M - 1206 (Chip Resistor, 2-Leads, Body 3/10x1/60mm, IPC Low Density)
footprint RESC3116X06L - 1206 (Chip Resistor, 2-Leads, Body 3/10x1/60mm, IPC High Density)
pins: 1, 2

## RES_5.1K-0.063W-1%-0402
designator R?, comment 5.1K
Res Thick Film 1.0 x 0.5 mm 5.1K Ohm 1% 0.063W(1/16W) 100ppm/ C Molded SMD Paper T/R; Manufacturer: Yageo; Manufacturer Part Number: RC0402FR-075K1L; Power Rating: 63mW; Voltage Rating: 50V; Resistance: 5.1kR; Temperature Coefficient: 100ppm/°C; Supplier 1: Digi-Key; RoHS: Yes; Category: Chip SMD Resistors; Stock 1: 2664162; Pricing 1: 1=0/10000, 10=0/01500, 100=0/00600, 1000=0/00267, 2500=0/00232, 5000=0/00192 (USD); Case/Package: 0402; Case Code (Metric): 1005; Case Code (Imperial): 0402; Min Operating Temperature: -55°C; Max Operating Temperature: 155°C; Tolerance: 1%; Packaging: Tape and Reel; Package Quantity: 1; Resistor Type: Thick Film; Number of Terminations: 2; Termination: SMD/SMT; Max Power Dissipation: 63mW; Voltage Rating (DC): 50V; Features: Moisture Resistant; Series: RC; Resistance Tolerance: 1%; Construction: Rectangular; Technology: THICK FILM; Working Voltage: 50V; Length: 1mm; Width: 0.02inch; Height: 0.016inch; Depth: 0.5mm; Military Standard: Not; Lead Free: Lead Free; RoHS Compliant: Yes; ComponentLink1URL: https://datasheet.ciiva.com/7983/1018594-7983519.pdf?src-supplier=Element14; ComponentLink1Description: https://datasheet.ciiva.com/7983/1018594-7983519.pdf?src-supplier=Element14; ComponentLink2URL: https://datasheet.ciiva.com/46394/1018594-46394936.pdf?src-supplier=Element14; ComponentLink2Description: https://datasheet.ciiva.com/46394/1018594-46394936.pdf?src-supplier=Element14; ComponentLink3URL: https://datasheet.ciiva.com/2453/pyu-r-int-thick-7-2453401.pdf?src-supplier=Digi-Key; ComponentLink3Description: https://datasheet.ciiva.com/2453/pyu-r-int-thick-7-2453401.pdf?src-supplier=Digi-Key; ComponentLink4URL: https://datasheet.ciiva.com/2453/pyu-r-int-thick-7-2453402.pdf?src-supplier=Digi-Key; ComponentLink4Description: https://datasheet.ciiva.com/2453/pyu-r-int-thick-7-2453402.pdf?src-supplier=Digi-Key; ComponentLink5URL: https://datasheet.ciiva.com/2453/pyu-r-int-thick-7-2453400.pdf?src-supplier=Digi-Key; ComponentLink5Description: https://datasheet.ciiva.com/2453/pyu-r-int-thick-7-2453400.pdf?src-supplier=Digi-Key; ComponentLink6URL: https://datasheet.ciiva.com/12558/pyu-rc0402-51-rohs-l-6-r-8721-12558460.pdf?src-supplier=Mouser; ComponentLink6Description: https://datasheet.ciiva.com/12558/pyu-rc0402-51-rohs-l-6-r-8721-12558460.pdf?src-supplier=Mouser; ComponentLink7URL: https://datasheet.ciiva.com/16744/pyu-rc0402-51-rohs-l-6-r-16744283.pdf?src-supplier=Future+Electronics; ComponentLink7Description: https://datasheet.ciiva.com/16744/pyu-rc0402-51-rohs-l-6-r-16744283.pdf?src-supplier=Future+Electronics; ComponentLink8URL: https://datasheet.ciiva.com/15189/getdatasheetpartid-323636-15189493.pdf?src-supplier=Verical; ComponentLink8Description: https://datasheet.ciiva.com/15189/getdatasheetpartid-323636-15189493.pdf?src-supplier=Verical; Supplier Part Number 1: 311-5.10KLRCT-ND
footprint RESC1005X04N - 0402 (Chip Resistor, 2-Leads, Body 1/00x0/50mm, IPC Medium Density)
footprint RESC1005X04M - 0402 (Chip Resistor, 2-Leads, Body 1/00x0/50mm, IPC Low Density)
footprint RESC1005X04L - 0402 (Chip Resistor, 2-Leads, Body 1/00x0/50mm, IPC High Density)
pins: 1, 2

## RES_5.1K-0.125W-1%-0805
designator R?, comment 5K1
Res Thick Film 0805 5.1K Ohm 1% 0.125W(1/8W) ±100ppm/C Pad SMD T/R; Manufacturer: Yageo; Manufacturer Part Number: RC0805FR-075K1L; Value: 5.1kR; Power Rating: 125mW; Voltage Rating: 150V; Temperature Coefficient: 100ppm/°C; Supplier: Digi-Key; Supplier Part Number: 311-5.10KCRCT-ND; RoHS: Yes; Category: Chip SMD Resistors; Stock: 766893; Pricing: 1=0.10000, 10=0.03300, 100=0.01330, 1000=0.00600, 2500=0.00520 (USD); Mounting Technology: Surface Mount; Case/Package: 0805; Case Code (Metric): 2012; Case Code (Imperial): 0805; Min Operating Temperature: -55°C; Max Operating Temperature: 155°C; Tolerance: 1%; Packaging: Tape and Reel; Resistor Type: Thick Film; Number of Terminations: 2; Termination: SMD/SMT; Max Power Dissipation: 125mW; Voltage Rating (DC): 150V; Features: Moisture Resistant; Series: RC; Technology: THICK FILM; Construction: Rectangular; Package Quantity: 1; Working Voltage: 150V; Length: 0.079inch; Width: 0.049inch; Height: 0.024inch; Depth: 1.25mm; Military Standard: Not; Lead Free: Lead Free; RoHS Compliant: Yes; ComponentLink1URL: https://datasheet.ciiva.com/2456/pyu-r-int-thick-7-2456979.pdf?src-supplier=Digi-Key; ComponentLink1Description: https://datasheet.ciiva.com/2456/pyu-r-int-thick-7-2456979.pdf?src-supplier=Digi-Key; ComponentLink2URL: https://datasheet.ciiva.com/2456/pyu-r-int-thick-7-2456980.pdf?src-supplier=Digi-Key; ComponentLink2Description: https://datasheet.ciiva.com/2456/pyu-r-int-thick-7-2456980.pdf?src-supplier=Digi-Key; ComponentLink3URL: https://datasheet.ciiva.com/2456/pyu-r-int-thick-7-2456978.pdf?src-supplier=Digi-Key; ComponentLink3Description: https://datasheet.ciiva.com/2456/pyu-r-int-thick-7-2456978.pdf?src-supplier=Digi-Key; ComponentLink4URL: https://datasheet.ciiva.com/5558/rc0805-5558152.pdf?src-supplier=Mouser; ComponentLink4Description: https://datasheet.ciiva.com/5558/rc0805-5558152.pdf?src-supplier=Mouser; ComponentLink5URL: https://datasheet.ciiva.com/15189/getdatasheetpartid-326574-15189996.pdf?src-supplier=Verical; ComponentLink5Description: https://datasheet.ciiva.com/15189/getdatasheetpartid-326574-15189996.pdf?src-supplier=Verical
footprint RESC2012X05N - 0805 (Chip Resistor, 2-Leads, Body 2/00x1/25mm, IPC Medium Density)
footprint RESC2012X05M - 0805 (Chip Resistor, 2-Leads, Body 2/00x1/25mm, IPC Low Density)
footprint RESC2012X05L - 0805 (Chip Resistor, 2-Leads, Body 2/00x1/25mm, IPC High Density)
pins: 1, 2

## RES_5.6K-0.125W-1%-0805
designator R?, comment 5K6
Res Thick Film 0805 5.6K Ohm 1% 0.125W(1/8W) ±100ppm/C Pad SMD T/R; Manufacturer: Yageo; Manufacturer Part Number: RC0805FR-075K6L; Resistance: 5.6kR; Temperature Coefficient: 100ppm/°C; Power Rating: 125mW; Voltage Rating: 150V; Supplier 1: Digi-Key; RoHS: Yes; Category: Chip SMD Resistors; Stock 1: 163044; Pricing 1: 1=0/10000, 10=0/04200, 100=0/01690, 1000=0/00759, 2500=0/00659 (USD); Case/Package: 0805; Case Code (Metric): 2012; Case Code (Imperial): 0805; Size Code: 0805; Min Operating Temperature: -55°C; Max Operating Temperature: 155°C; Tolerance: 1%; Packaging: Tape and Reel; Resistor Type: Thick Film; Number of Terminations: 2; Termination: SMD/SMT; Max Power Dissipation: 125mW; Features: Moisture Resistant; Series: RC; Resistance Tolerance: 1%; Package Quantity: 1; Construction: Rectangular; Length: 2mm; Width: 0.049inch; Height: 0.024inch; Depth: 1.25mm; REACH SVHC: Unknown; Lead Free: Lead Free; RoHS Compliant: Yes; Military Standard: Not; ComponentLink1URL: https://datasheet.ciiva.com/2519/pyu-r-int-thick-7-2519844.pdf?src-supplier=Digi-Key; ComponentLink1Description: https://datasheet.ciiva.com/2519/pyu-r-int-thick-7-2519844.pdf?src-supplier=Digi-Key; ComponentLink2URL: https://datasheet.ciiva.com/2519/pyu-r-int-thick-7-2519845.pdf?src-supplier=Digi-Key; ComponentLink2Description: https://datasheet.ciiva.com/2519/pyu-r-int-thick-7-2519845.pdf?src-supplier=Digi-Key; ComponentLink3URL: https://datasheet.ciiva.com/2519/pyu-r-int-thick-7-2519843.pdf?src-supplier=Digi-Key; ComponentLink3Description: https://datasheet.ciiva.com/2519/pyu-r-int-thick-7-2519843.pdf?src-supplier=Digi-Key; ComponentLink4URL: https://datasheet.ciiva.com/7941/444164-7941820.pdf?src-supplier=Element14; ComponentLink4Description: https://datasheet.ciiva.com/7941/444164-7941820.pdf?src-supplier=Element14; ComponentLink5URL: https://datasheet.ciiva.com/7941/444164-7941819.pdf?src-supplier=Element14; ComponentLink5Description: https://datasheet.ciiva.com/7941/444164-7941819.pdf?src-supplier=Element14; Supplier Part Number 1: 311-5.60KCRCT-ND
footprint RESC2012X05N - 0805 (Chip Resistor, 2-Leads, Body 2/00x1/25mm, IPC Medium Density)
footprint RESC2012X05M - 0805 (Chip Resistor, 2-Leads, Body 2/00x1/25mm, IPC Low Density)
footprint RESC2012X05L - 0805 (Chip Resistor, 2-Leads, Body 2/00x1/25mm, IPC High Density)
pins: 1, 2

## RES_8.2K-0.125W-1%-0805
designator R?, comment 8K2
Res Thick Film 0805 8.2K Ohm 1% 0.125W(1/8W) ±100ppm/C Pad SMD T/R; Manufacturer: Yageo; Manufacturer Part Number: RC0805FR-078K2L; Power Rating: 125mW; Resistance: 8.2kR; Voltage Rating: 150V; Temperature Coefficient: 100ppm/°C; Supplier 1: Digi-Key; RoHS: Yes; Category: Chip SMD Resistors; Stock 1: 352780; Pricing 1: 1=0/10000, 10=0/04000, 100=0/01620, 1000=0/00726, 2500=0/00630 (USD); Case/Package: 0805; Case Code (Metric): 2012; Case Code (Imperial): 0805; Size Code: 0805; Min Operating Temperature: -55°C; Max Operating Temperature: 155°C; Tolerance: 1%; Packaging: Tape and Reel; Resistor Type: Thick Film; Number of Terminations: 2; Termination: SMD/SMT; Max Power Dissipation: 125mW; Features: Moisture Resistant; Series: RC; Technology: THICK FILM; Resistance Tolerance: 1%; Package Quantity: 1; Length: 2mm; Width: 0.049inch; Height: 0.5mm; Depth: 1.25mm; REACH SVHC: Unknown; Lead Free: Lead Free; RoHS Compliant: Yes; ComponentLink1URL: https://datasheet.ciiva.com/11808/0900766b8106beab-11808608.pdf?src-supplier=RSComponents; ComponentLink1Description: https://datasheet.ciiva.com/11808/0900766b8106beab-11808608.pdf?src-supplier=RSComponents; ComponentLink2URL: https://datasheet.ciiva.com/2457/pyu-r-int-thick-7-2457429.pdf?src-supplier=Digi-Key; ComponentLink2Description: https://datasheet.ciiva.com/2457/pyu-r-int-thick-7-2457429.pdf?src-supplier=Digi-Key; ComponentLink3URL: https://datasheet.ciiva.com/2457/pyu-r-int-thick-7-2457430.pdf?src-supplier=Digi-Key; ComponentLink3Description: https://datasheet.ciiva.com/2457/pyu-r-int-thick-7-2457430.pdf?src-supplier=Digi-Key; ComponentLink4URL: https://datasheet.ciiva.com/2457/pyu-r-int-thick-7-2457428.pdf?src-supplier=Digi-Key; ComponentLink4Description: https://datasheet.ciiva.com/2457/pyu-r-int-thick-7-2457428.pdf?src-supplier=Digi-Key; ComponentLink5URL: https://datasheet.ciiva.com/7941/444164-7941848.pdf?src-supplier=Element14; ComponentLink5Description: https://datasheet.ciiva.com/7941/444164-7941848.pdf?src-supplier=Element14; ComponentLink6URL: https://datasheet.ciiva.com/7941/444164-7941847.pdf?src-supplier=Element14; ComponentLink6Description: https://datasheet.ciiva.com/7941/444164-7941847.pdf?src-supplier=Element14; ComponentLink7URL: https://datasheet.ciiva.com/17195/rc0805-17195302.pdf?src-supplier=Future+Electronics; ComponentLink7Description: https://datasheet.ciiva.com/17195/rc0805-17195302.pdf?src-supplier=Future+Electronics; Supplier Part Number 1: 311-8.20KCRCT-ND
footprint RESC2012X05N - 0805 (Chip Resistor, 2-Leads, Body 2/00x1/25mm, IPC Medium Density)
footprint RESC2012X05M - 0805 (Chip Resistor, 2-Leads, Body 2/00x1/25mm, IPC Low Density)
footprint RESC2012X05L - 0805 (Chip Resistor, 2-Leads, Body 2/00x1/25mm, IPC High Density)
pins: 1, 2

## RES_8.06K-0.1W-1%-0603
designator R?, comment 8K06
Res Thick Film 0603 8.06K Ohm 1% 1/10W ±100ppm/°C Molded SMD SMD Paper T/R; Manufacturer: Yageo; Manufacturer Part Number: RC0603FR-108K06L; Resistance: 8.06kR; Supplier 1: Digi-Key; RoHS: Yes; Category: Chip SMD Resistors; Stock 1: 14225; Pricing 1: 1=0/10000, 10=0/02300, 100=0/00930, 1000=0/00417, 2500=0/00362, 5000=0/00299 (USD); Case/Package: 0603; Contact Plating: Tin,Matte; Min Operating Temperature: -55°C; Max Operating Temperature: 155°C; Tolerance: 1%; Resistor Type: Thick Film; Temperature Coefficient: 100ppm/°C; Radiation Hardening: No; RoHS Compliant: Yes; ComponentLink1URL: http://www.yageo.com/documents/recent/PYu-RC_Group_51_RoHS_L_2.pdf?src-supplier=Avnet; ComponentLink1Description: http://www.yageo.com/documents/recent/PYu-RC_Group_51_RoHS_L_2.pdf?src-supplier=Avnet; Supplier Part Number 1: 13-RC0603FR-108K06LCT-ND
footprint RESC1608X04N - 0603 (Chip Resistor, 2-Leads, Body 1/60x0/80mm, IPC Medium Density)
footprint RESC1608X04M - 0603 (Chip Resistor, 2-Leads, Body 1/60x0/80mm, IPC Low Density)
footprint RESC1608X04L - 0603 (Chip Resistor, 2-Leads, Body 1/60x0/80mm, IPC High Density)
pins: 1, 2

## RES_8.06K-0.063W-1%-0402
designator R?, comment 8.06K
Res Thick Film 0402 8.06K Ohm 1% 1/16W +/-100ppm/ßC Molded SMD Paper T/R; Manufacturer: Yageo; Manufacturer Part Number: RC0402FR-078K06L; Resistance: 8.06kR; Voltage Rating (DC): 50V; Power Rating: 62.5mW; Temperature Coefficient: 100ppm/°C; Max Power Dissipation: 63mW; Supplier 1: Digi-Key; RoHS: Yes; Category: Chip SMD Resistors; Stock 1: 754572; Pricing 1: 1=0/10000, 10=0/01500, 100=0/00600, 1000=0/00267, 2500=0/00232, 5000=0/00192 (USD); Case/Package: 0402; Case Code (Metric): 1005; Case Code (Imperial): 0402; Contact Plating: Tin,Matte; Min Operating Temperature: -55°C; Max Operating Temperature: 155°C; Tolerance: 1%; Packaging: Tape and Reel; Features: Moisture Resistant; Package Quantity: 1; Voltage Rating: 50V; Resistor Type: Thick Film; Number of Terminations: 2; Termination: SMD/SMT; Working Voltage: 50V; Series: RC; Construction: Rectangular; Technology: THICK FILM; Length: 1mm; Width: 0.02inch; Height: 0.016inch; Depth: 0.5mm; Lead Free: Lead Free; Military Standard: Not; RoHS Compliant: Yes; ComponentLink1URL: https://datasheet.ciiva.com/2453/pyu-r-int-thick-7-2453503.pdf?src-supplier=Digi-Key; ComponentLink1Description: https://datasheet.ciiva.com/2453/pyu-r-int-thick-7-2453503.pdf?src-supplier=Digi-Key; ComponentLink2URL: https://datasheet.ciiva.com/2453/pyu-r-int-thick-7-2453504.pdf?src-supplier=Digi-Key; ComponentLink2Description: https://datasheet.ciiva.com/2453/pyu-r-int-thick-7-2453504.pdf?src-supplier=Digi-Key; ComponentLink3URL: https://datasheet.ciiva.com/2453/pyu-r-int-thick-7-2453502.pdf?src-supplier=Digi-Key; ComponentLink3Description: https://datasheet.ciiva.com/2453/pyu-r-int-thick-7-2453502.pdf?src-supplier=Digi-Key; ComponentLink4URL: https://datasheet.ciiva.com/16741/pyu-rc0402-51-rohs-l-6-r-16741133.pdf?src-supplier=Future+Electronics; ComponentLink4Description: https://datasheet.ciiva.com/16741/pyu-rc0402-51-rohs-l-6-r-16741133.pdf?src-supplier=Future+Electronics; Supplier Part Number 1: 311-8.06KLRCT-ND
footprint RESC1005X04N - 0402 (Chip Resistor, 2-Leads, Body 1/00x0/50mm, IPC Medium Density)
footprint RESC1005X04M - 0402 (Chip Resistor, 2-Leads, Body 1/00x0/50mm, IPC Low Density)
footprint RESC1005X04L - 0402 (Chip Resistor, 2-Leads, Body 1/00x0/50mm, IPC High Density)
pins: 1, 2

## RES_10K-0.1W-1%-0603
designator R?, comment 10K
Res General Purpose Thick Film 0603 10K Ohm 1% 1/10W ±100ppm/°C Molded SMD Paper T/R; Manufacturer: Yageo; Manufacturer Part Number: RC0603FR-0710KL; Resistance: 10kR; Voltage Rating (DC): 50V; Power Rating: 100mW; Voltage Rating: 75V; Supplier 1: Digi-Key; RoHS: Yes; Category: Chip SMD Resistors; Pricing 1: 1=0/10000, 10=0/02400, 100=0/00970, 1000=0/00436, 2500=0/00378 (USD); Case/Package: 0603; Number of Pins: 2; Case Code (Imperial): 0603; Case Code (Metric): 1608; Size Code: 0603; Weight: 7.1E-05oz; Min Operating Temperature: -55°C; Max Operating Temperature: 155°C; Packaging: Tape and Reel; Tolerance: 1%; Resistor Type: Thick Film; Temperature Coefficient: 100ppm/°C; Termination: SMD/SMT; Features: Moisture Resistant; Series: RC; Max Power Dissipation: 100mW; Number of Terminations: 2; Resistance Tolerance: 1%; Construction: Rectangular; Length: 1.6mm; Width: 0.8mm; Height: 0.45mm; Depth: 0.8mm; Lead Pitch: 0.3mm; REACH SVHC: Unknown; Lead Free: Lead Free; Military Standard: Not; RoHS Compliant: Yes; ComponentLink1URL: https://datasheet.ciiva.com/7660/38590-7660789.pdf?src-supplier=Element14; ComponentLink1Description: https://datasheet.ciiva.com/7660/38590-7660789.pdf?src-supplier=Element14; ComponentLink2URL: https://datasheet.ciiva.com/7983/443971-7983596.pdf?src-supplier=Element14; ComponentLink2Description: https://datasheet.ciiva.com/7983/443971-7983596.pdf?src-supplier=Element14; ComponentLink3URL: https://datasheet.ciiva.com/22747/443971-22747519.pdf?src-supplier=Element14; ComponentLink3Description: https://datasheet.ciiva.com/22747/443971-22747519.pdf?src-supplier=Element14; ComponentLink4URL: https://datasheet.ciiva.com/46440/1868787-46440891.pdf?src-supplier=Element14; ComponentLink4Description: https://datasheet.ciiva.com/46440/1868787-46440891.pdf?src-supplier=Element14; ComponentLink5URL: https://datasheet.ciiva.com/7746/1738695-7746239.pdf?src-supplier=Element14; ComponentLink5Description: https://datasheet.ciiva.com/7746/1738695-7746239.pdf?src-supplier=Element14; ComponentLink6URL: https://datasheet.ciiva.com/15189/getdatasheetpartid-409289-15189591.pdf?src-supplier=Verical; ComponentLink6Description: https://datasheet.ciiva.com/15189/getdatasheetpartid-409289-15189591.pdf?src-supplier=Verical; Supplier Part Number 1: 311-10.0KHRCT-ND
footprint RESC1608X04N - 0603 (Chip Resistor, 2-Leads, Body 1/60x0/80mm, IPC Medium Density)
footprint RESC1608X04M - 0603 (Chip Resistor, 2-Leads, Body 1/60x0/80mm, IPC Low Density)
footprint RESC1608X04L - 0603 (Chip Resistor, 2-Leads, Body 1/60x0/80mm, IPC High Density)
pins: 1, 2